# Altium footprint library 1729018.PcbLib: 1 footprints
Each footprint in its own frame and in the unit in brackets; x right, y up, seen from the top. Pads: shape width x height; smd on the part's side, far side on the other; paste and mask are expansions set on the pad; w line width, h text height; cw(c..) or ccw(c..) is an arc to the next point about the centre after c.
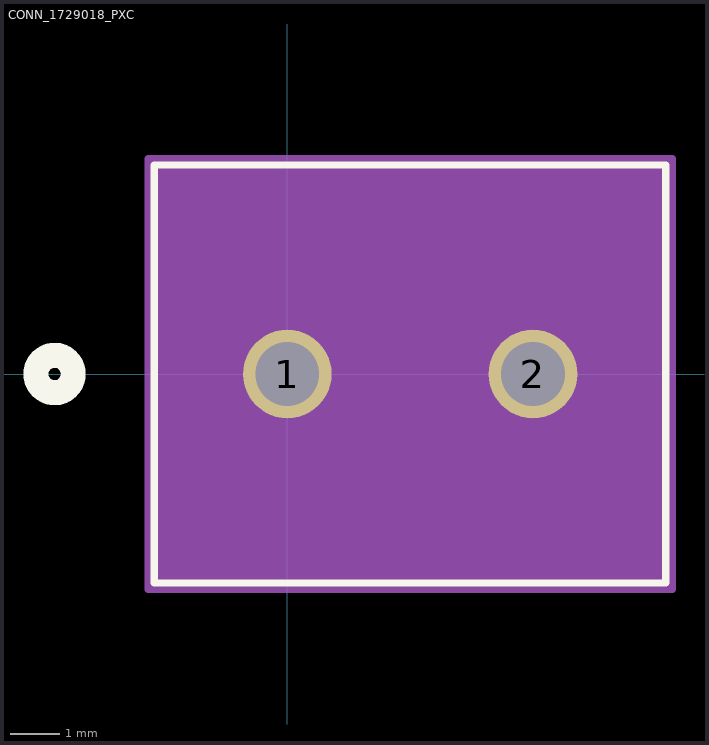
[diagram p0: the footprint, top view; thin cyan lines are the x and y axes]

## CONN_1729018_PXC [mil]
pads (2):
  round 71 hole 51 paste-35.5 mask+0: 1(0,0) 2(196.85,0)
Top Overlay:
  circle w20: c-186.57,0 r15
  lines w6: -106.57,-167.5 303.43,-167.5 303.43,167.5 -106.57,167.5 -106.57,-167.5
  text ".Designator" at -39.07,-25 h50
Bottom Overlay:
  circle w20: c-186.57,0 r15
Mechanical 13:
  circle w20: c0,0 r15
  lines w1: -101.57,-162.5 298.43,-162.5 298.43,162.5 -101.57,162.5 -101.57,-162.5
  text ".Designator" at -39.07,-25 h50
Mechanical 15:
  region: 308.43,172.5 -111.57,172.5 -111.57,-172.5 308.43,-172.5
  lines w6: -111.57,-172.5 -111.57,172.5 308.43,172.5 308.43,-172.5 -111.57,-172.5